# EAGLE library part TMG399* (library AMS)
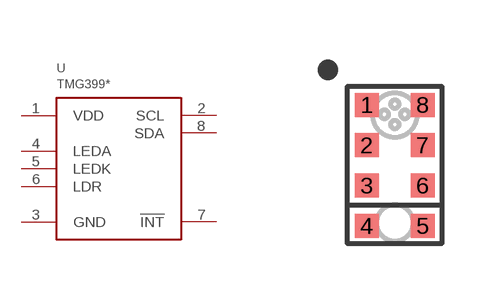
[diagram p1: symbol with the pads of LGA8; footprint LGA8]

Designator prefix U

## TMG39921, TMG39923, TMG39925, TMG39927, TMG39931, TMG39933, TMG39935, TMG39937  [LGA8]
1  VDD
2  SCL
3  GND
4  LEDA
5  LEDK
6  LDR
7  !INT
8  SDA

## Footprint LGA8 (pad centres in mm)
smd 0.6 x 0.6: 1 -0.7,1.506; 2 -0.7,0.496; 3 -0.7,-0.514; 4 -0.7,-1.524; 5 0.7,-1.524; 6 0.7,-0.514; 7 0.7,0.496; 8 0.7,1.506